# Altium footprint library ABS13.PCBLIB: 2 footprints
Each footprint in its own frame and in the unit in brackets; x right, y up, seen from the top. Pads: shape width x height; smd on the part's side, far side on the other; paste and mask are expansions set on the pad; w line width, h text height; cw(c..) or ccw(c..) is an arc to the next point about the centre after c.
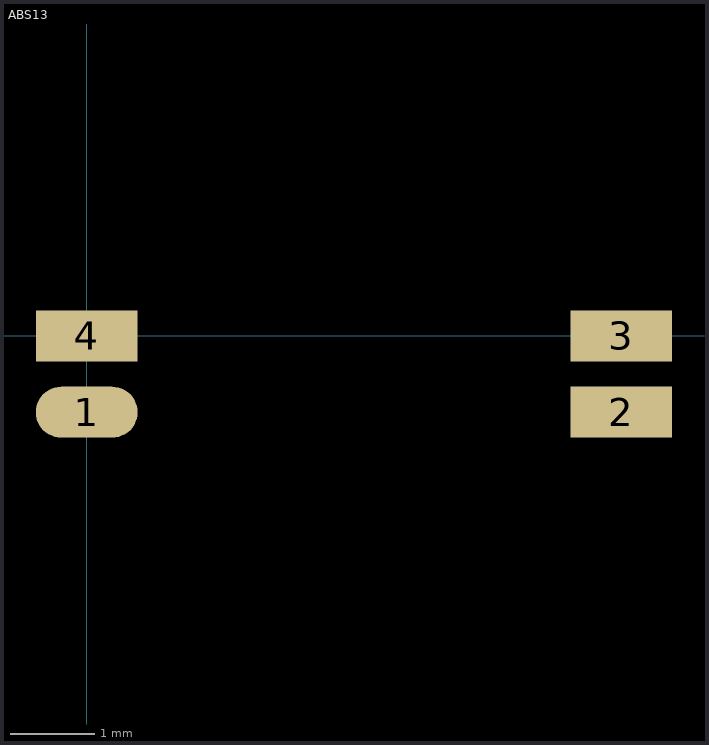
[diagram p0: the footprints below, top view; thin cyan lines are the x and y axes]

## ABS13 [mm] "Footprint for ABS13 crystal (abracon)"
height 1.3
pads (4):
  oval 1.2x0.6 smd: 1(0,-0.9)
  rect 1.2x0.6 smd: 2(6.3,-0.9) 3(6.3,0) 4(0,0)

## PCBComponent_1 [mm]